# Altium schematic symbol library Components - 27.05.26 - 16.26.SchLib: 1 symbol
Pins are listed as number, name and electrical type; pins without a type are passive.

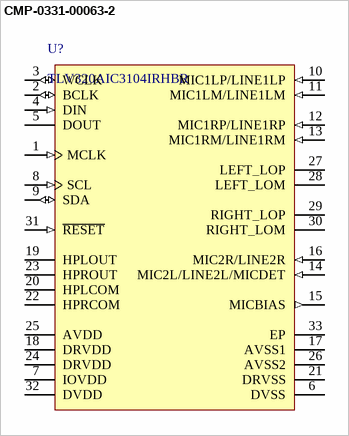
[diagram p0: symbol CMP-0331-00063-2]

## CMP-0331-00063-2
designator U?, comment TLV320AIC3104IRHBR
Low-Power Stereo CODEC with 6 Inputs, 6 Outputs, HP Amp and Enhanced Digital Effects, 2 ADCs and 2 DACs, 102 dB DAC SNR, -40 to 85 degC, 32-pin QFN (RHB), Green (RoHS & no Sb/Br); Manufacturer: Texas Instruments; # DACs: 2; Sampling Rate (Max) (kHz): 96; Control Interface: I2C; Digital Audio Interfaces: L, R, I2S, DSP, TDM; Additional Features: LP Bypass, Notch Filtering, 3D, EQ, Matrix Mixing, PLL; DAC SNR: 102; Battery Powered: TRUE; Code_JEDEC: MO-220; ComponentLink1Description: Datasheet; PackageReference: RHB0032E; DatasheetVersion: SLAS510C; # ADCs (typ): 2; ComponentLink1URL: http://www.ti.com/general/docs/lit/getliterature.tsp?genericPartNumber=TLV320AIC3104&fileType=pdf; PackageVersion: revD, Jun-2011; PackageDescription: 32-Pin Plastic Quad Flat No-Lead, 5 x 5 mm Body, 0.5 mm Pitch, 3.45 x 3.45 mm Exposed Pad; Mounting Technology: Surface Mount; PartNumber: TLV320AIC3104IRHBR
footprint RHB0032E_V (QFN, 32-Leads, Body 5x5mm, Pitch 0.5mm, Thermal Pad 3.45x3.45mm)
pins: 1 MCLK (in) "Master clock input", 2 BCLK (io) "Audio serial data bus bit clock input/output", 3 WCLK (io) "Audio serial data bus word clock inout/output", 4 DIN (in) "Audio serial data bus data input", 5 DOUT (hiz) "Audio serial data bus data output", 6 DVSS (power) "Digital core I/O ground supply,0V", 7 IOVDD (power) "Digital I/O voltage supply,1.1V-3.6V", 8 SCL (in) "I2C serial clock input", 9 SDA (io) "I2C serial data input/output", 10 MIC1LP/LINE1LP (in) "Left input 1(SE) or left input + (diff)", 11 MIC1LM/LINE1LM (in) "Left input-(diff only)", 12 MIC1RP/LINE1RP (in) "Right input 1(SE) or right input + (diff)", 13 MIC1RM/LINE1RM (in) "Right input- (diff only)", 14 MIC2L/LINE2L/MICDET (in) "Left input 2(SE);can support microphone detection", 15 MICBIAS (out) "Microphone bias voltage output", 16 MIC2R/LINE2R (in) "Right input 2 (SE)", 17 AVSS1 (power) "Analog ADC ground supply,0V", 18 DRVDD (power) "Analog ADC and output driver voltage supply,2.7V-3.6V", 19 HPLOUT (hiz) "High-power output driver(left+)", 20 HPLCOM (hiz) "High-power output driver(left- or multi-functional)", 21 DRVSS (power) "Analog output driver ground supply,0V", 22 HPRCOM (hiz) "High-power output driver (right- or multi-functional)", 23 HPROUT (hiz) "High-power output driver(right+)", 24 DRVDD (power) "Analog output driver voltage supply,2.7V-3.6V", 25 AVDD (power) "Analog DAC voltage supply,2.7V-3.6V", 26 AVSS2 (power) "Analog DAC ground supply,0V", 27 LEFT_LOP (hiz) "Left line output(+)", 28 LEFT_LOM (hiz) "Left line output(-)", 29 RIGHT_LOP (hiz) "Right line output (+)", 30 RIGHT_LOM (hiz) "Right line output (-)", 31 ~{RESET} (in) "Reset", 32 DVDD (power) "Digital core voltage supply,1.525V-1.95V", 33 EP (power) "Exposed Thermal Pad"